# Altium footprint library PcbLib1.PcbLib: 5 footprints
Each footprint in its own frame and in the unit in brackets; x right, y up, seen from the top. Pads: shape width x height; smd on the part's side, far side on the other; paste and mask are expansions set on the pad; w line width, h text height; cw(c..) or ccw(c..) is an arc to the next point about the centre after c.
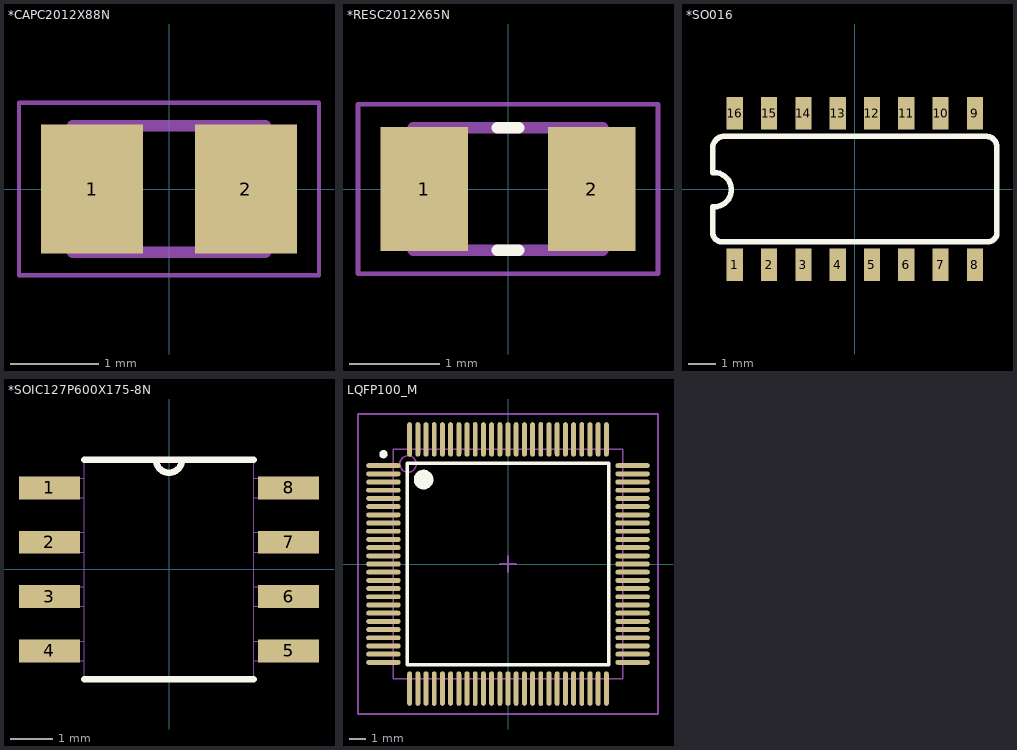
[diagram p0: the footprints below, top view; thin cyan lines are the x and y axes]

## *CAPC2012X88N [mm]
pads (2):
  rect 1.16x1.47 smd: 1(-0.875,0) 2(0.875,0)
Mechanical 4:
  lines w0.127: -1.1,-0.72 -1.1,0.72 ; -1.1,-0.72 1.1,-0.72 ; -1.1,-0.72 -1.1,0.72 ; -1.1,-0.72 1.1,-0.72 ; -1.1,0.72 1.1,0.72 ; -1.1,0.72 1.1,0.72 ; 1.1,-0.72 1.1,0.72 ; 1.1,-0.72 1.1,0.72
Mechanical 16:
  lines w0.05: -1.708,-0.983 -1.708,0.983 1.708,0.983 1.708,-0.983 -1.708,-0.983

## *RESC2012X65N [mm]
pads (2):
  rect 0.97x1.38 smd: 1(-0.93,0) 2(0.93,0)
Top Overlay:
  lines w0.127: -0.12,-0.68 0.12,-0.68 ; -0.12,0.68 0.12,0.68
Mechanical 4:
  lines w0.127: -1.05,-0.68 1.05,-0.68 ; -1.05,-0.68 -1.05,0.68 ; -1.05,-0.68 1.05,-0.68 ; -1.05,-0.68 -1.05,0.68 ; -1.05,0.68 1.05,0.68 ; -1.05,0.68 1.05,0.68 ; 1.05,-0.68 1.05,0.68 ; 1.05,-0.68 1.05,0.68
Mechanical 16:
  lines w0.05: -1.665,-0.94 1.665,-0.94 1.665,0.94 -1.665,0.94 -1.665,-0.94

## *SO016 [mm]
pads (16):
  rect 0.6x1.2 smd: 1(-4.445,-2.8) 2(-3.175,-2.8) 3(-1.905,-2.8) 4(-0.635,-2.8) 5(0.635,-2.8) 6(1.905,-2.8) 7(3.175,-2.8) 8(4.445,-2.8) 9(4.445,2.8) 10(3.175,2.8) 11(1.905,2.8) 12(0.635,2.8) 13(-0.635,2.8) 14(-1.905,2.8) 15(-3.175,2.8) 16(-4.445,2.8)
Top Overlay:
  lines w0.203: -5.257,-1.668 ccw(c-4.927,-1.615) -4.874,-1.946 ; -5.258,-1.665 -5.258,-0.66 ; -5.258,0.61 -5.258,1.453 ; -5.257,1.463 cw(c-4.827,1.515) -4.88,1.946 ; -5.207,-0.66 ccw(c-5.207,-0.025) -5.207,0.61 ; -4.877,-1.946 4.977,-1.946 ; -4.877,1.946 4.877,1.946 cw(c4.877,1.565) 5.258,1.565 5.258,-1.565 ; 4.979,-1.946 ccw(c4.927,-1.615) 5.257,-1.563
Mechanical 4:
  region: 4.196,3.302 4.699,3.302 4.699,2.289 4.196,2.289
  region: 2.927,3.302 3.429,3.302 3.429,2.29 2.927,2.29
  region: 1.653,3.302 2.159,3.302 2.159,2.289 1.653,2.289
  region: 0.382,3.302 0.889,3.302 0.889,2.289 0.382,2.289
  region: -0.89,3.302 -0.381,3.302 -0.381,2.288 -0.89,2.288
  region: -2.162,3.302 -1.651,3.302 -1.651,2.289 -2.162,2.289
  region: -3.432,3.302 -2.921,3.302 -2.921,2.288 -3.432,2.288
  region: -4.699,3.365 -4.191,3.365 -4.191,2.286 -4.699,2.286
  region: 4.196,-2.273 4.699,-2.273 4.699,-3.306 4.196,-3.306
  region: 2.923,-2.273 3.429,-2.273 3.429,-3.304 2.923,-3.304
  region: 1.652,-2.273 2.159,-2.273 2.159,-3.304 1.652,-3.304
  region: 0.381,-2.273 0.889,-2.273 0.889,-3.303 0.381,-3.303
  region: -0.889,-2.273 -0.381,-2.273 -0.381,-3.303 -0.889,-3.303
  region: -2.159,-2.273 -1.651,-2.273 -1.651,-3.302 -2.159,-3.302
  region: -3.434,-2.273 -2.921,-2.273 -2.921,-3.306 -3.434,-3.306
  region: -4.702,-2.273 -4.191,-2.273 -4.191,-3.304 -4.702,-3.304
  region: 4.196,3.302 4.699,3.302 4.699,2.289 4.196,2.289
  region: 2.927,3.302 3.429,3.302 3.429,2.29 2.927,2.29
  region: 1.653,3.302 2.159,3.302 2.159,2.289 1.653,2.289
  region: 0.382,3.302 0.889,3.302 0.889,2.289 0.382,2.289
  region: -0.89,3.302 -0.381,3.302 -0.381,2.288 -0.89,2.288
  region: -2.162,3.302 -1.651,3.302 -1.651,2.289 -2.162,2.289
  region: -3.432,3.302 -2.921,3.302 -2.921,2.288 -3.432,2.288
  region: -4.699,3.365 -4.191,3.365 -4.191,2.286 -4.699,2.286
  region: 4.196,-2.273 4.699,-2.273 4.699,-3.306 4.196,-3.306
  region: 2.923,-2.273 3.429,-2.273 3.429,-3.304 2.923,-3.304
  region: 1.652,-2.273 2.159,-2.273 2.159,-3.304 1.652,-3.304
  region: 0.381,-2.273 0.889,-2.273 0.889,-3.303 0.381,-3.303
  region: -0.889,-2.273 -0.381,-2.273 -0.381,-3.303 -0.889,-3.303
  region: -2.159,-2.273 -1.651,-2.273 -1.651,-3.302 -2.159,-3.302
  region: -3.434,-2.273 -2.921,-2.273 -2.921,-3.306 -3.434,-3.306
  region: -4.702,-2.273 -4.191,-2.273 -4.191,-3.304 -4.702,-3.304

## *SOIC127P600X175-8N [mil]
pads (8):
  rect 56x21 smd: 1(-110,75) 2(-110,25) 3(-110,-25) 4(-110,-75) 5(110,-75) 6(110,-25) 7(110,25) 8(110,75)
Top Overlay:
  lines w6: -78,-101 78,-101 ; -78,101 -12,101 ; 78,101 12,101 ; -12,101 ccw(c0,101) 12,101 ; -12,101 12,101
Mechanical 4:
  lines w0: -124,-84 -78,-84 ; -124,-84 -124,-66 ; -124,-84 -78,-84 ; -124,-84 -124,-66 ; -124,-66 -78,-66 ; -124,-66 -78,-66 ; -124,-34 -78,-34 ; -124,-34 -124,-16 ; -124,-34 -78,-34 ; -124,-34 -124,-16 ; -124,-16 -78,-16 ; -124,-16 -78,-16 ; -124,16 -78,16 ; -124,16 -124,34 ; -124,16 -78,16 ; -124,16 -124,34 ; -124,34 -78,34 ; -124,34 -78,34 ; -124,66 -78,66 ; -124,66 -124,84 ; -124,66 -78,66 ; -124,66 -124,84 ; -124,84 -78,84 ; -124,84 -78,84 ; -78,-101 -78,101 ; -78,-101 78,-101 ; -78,-101 -78,101 ; -78,-101 78,-101 ; -78,-84 -78,-66 ; -78,-84 -78,-66 ; -78,-34 -78,-16 ; -78,-34 -78,-16 ; -78,16 -78,34 ; -78,16 -78,34 ; -78,66 -78,84 ; -78,66 -78,84 ; -78,101 -12,101 ; -78,101 -12,101 ; -12,101 ccw(c0,101) 12,101 ; -12,101 ccw(c0,101) 12,101 ; -12,101 12,101 ; -12,101 12,101 ; 12,101 78,101 ; 12,101 78,101 ; 78,-101 78,101 ; 78,-101 78,101 ; 78,-84 124,-84 ; 78,-84 78,-66 ; 78,-84 124,-84 ; 78,-84 78,-66 ; 78,-66 124,-66 ; 78,-66 124,-66 ; 78,-34 124,-34 ; 78,-34 78,-16 ; 78,-34 124,-34 ; 78,-34 78,-16 ; 78,-16 124,-16 ; 78,-16 124,-16 ; 78,16 124,16 ; 78,16 78,34 ; 78,16 124,16 ; 78,16 78,34 ; 78,34 124,34 ; 78,34 124,34 ; 78,66 124,66 ; 78,66 78,84 ; 78,66 124,66 ; 78,66 78,84 ; 78,84 124,84 ; 78,84 124,84 ; 124,-84 124,-66 ; 124,-84 124,-66 ; 124,-34 124,-16 ; 124,-34 124,-16 ; 124,16 124,34 ; 124,16 124,34 ; 124,66 124,84 ; 124,66 124,84

## LQFP100_M [mm] "Thin QFP, 100-Leads, Body 14x14mm, Pitch 0.5mm, IPC Low Density"
height 1.6
pads (100):
  oval 2.1x0.3 smd: 1(-7.6,6) 2(-7.6,5.5) 3(-7.6,5) 4(-7.6,4.5) 5(-7.6,4) 6(-7.6,3.5) 7(-7.6,3) 8(-7.6,2.5) 9(-7.6,2) 10(-7.6,1.5) 11(-7.6,1) 12(-7.6,0.5) 13(-7.6,0) 14(-7.6,-0.5) 15(-7.6,-1) 16(-7.6,-1.5) 17(-7.6,-2) 18(-7.6,-2.5) 19(-7.6,-3) 20(-7.6,-3.5) 21(-7.6,-4) 22(-7.6,-4.5) 23(-7.6,-5) 24(-7.6,-5.5) 25(-7.6,-6) 51(7.6,-6) 52(7.6,-5.5) 53(7.6,-5) 54(7.6,-4.5) 55(7.6,-4) 56(7.6,-3.5) 57(7.6,-3) 58(7.6,-2.5) 59(7.6,-2) 60(7.6,-1.5) 61(7.6,-1) 62(7.6,-0.5) 63(7.6,0) 64(7.6,0.5) 65(7.6,1) 66(7.6,1.5) 67(7.6,2) 68(7.6,2.5) 69(7.6,3) 70(7.6,3.5) 71(7.6,4) 72(7.6,4.5) 73(7.6,5) 74(7.6,5.5) 75(7.6,6)
  oval 0.3x2.1 smd: 26(-6,-7.6) 27(-5.5,-7.6) 28(-5,-7.6) 29(-4.5,-7.6) 30(-4,-7.6) 31(-3.5,-7.6) 32(-3,-7.6) 33(-2.5,-7.6) 34(-2,-7.6) 35(-1.5,-7.6) 36(-1,-7.6) 37(-0.5,-7.6) 38(0,-7.6) 39(0.5,-7.6) 40(1,-7.6) 41(1.5,-7.6) 42(2,-7.6) 43(2.5,-7.6) 44(3,-7.6) 45(3.5,-7.6) 46(4,-7.6) 47(4.5,-7.6) 48(5,-7.6) 49(5.5,-7.6) 50(6,-7.6) 76(6,7.6) 77(5.5,7.6) 78(5,7.6) 79(4.5,7.6) 80(4,7.6) 81(3.5,7.6) 82(3,7.6) 83(2.5,7.6) 84(2,7.6) 85(1.5,7.6) 86(1,7.6) 87(0.5,7.6) 88(0,7.6) 89(-0.5,7.6) 90(-1,7.6) 91(-1.5,7.6) 92(-2,7.6) 93(-2.5,7.6) 94(-3,7.6) 95(-3.5,7.6) 96(-4,7.6) 97(-4.5,7.6) 98(-5,7.6) 99(-5.5,7.6) 100(-6,7.6)
Top Overlay:
  circle w0.25: c-7.6,6.7 r0.125
  circle w0.6: c-5.15,5.15 r0.3
  lines w0.2: -6.15,-6.15 -6.15,6.15 6.15,6.15 6.15,-6.15 -6.15,-6.15
Mechanical 13:
  circle w0.1: c-6.1,6.1 r0.5
  lines w0.1: -7,-7 -7,7 7,7 7,-7 -7,-7
Mechanical 15:
  lines w0.1: -0.5,0 0.5,0 ; 0,-0.5 0,0.5 ; -9.15,-9.15 -9.15,9.15 9.15,9.15 9.15,-9.15 -9.15,-9.15
3D body: height 1.6, standoff 0, extent -7,-7 7,7